# Altium schematic symbol library SCHLib.SchLib: 36 symbols
Pins are listed as number, name and electrical type; pins without a type are passive.

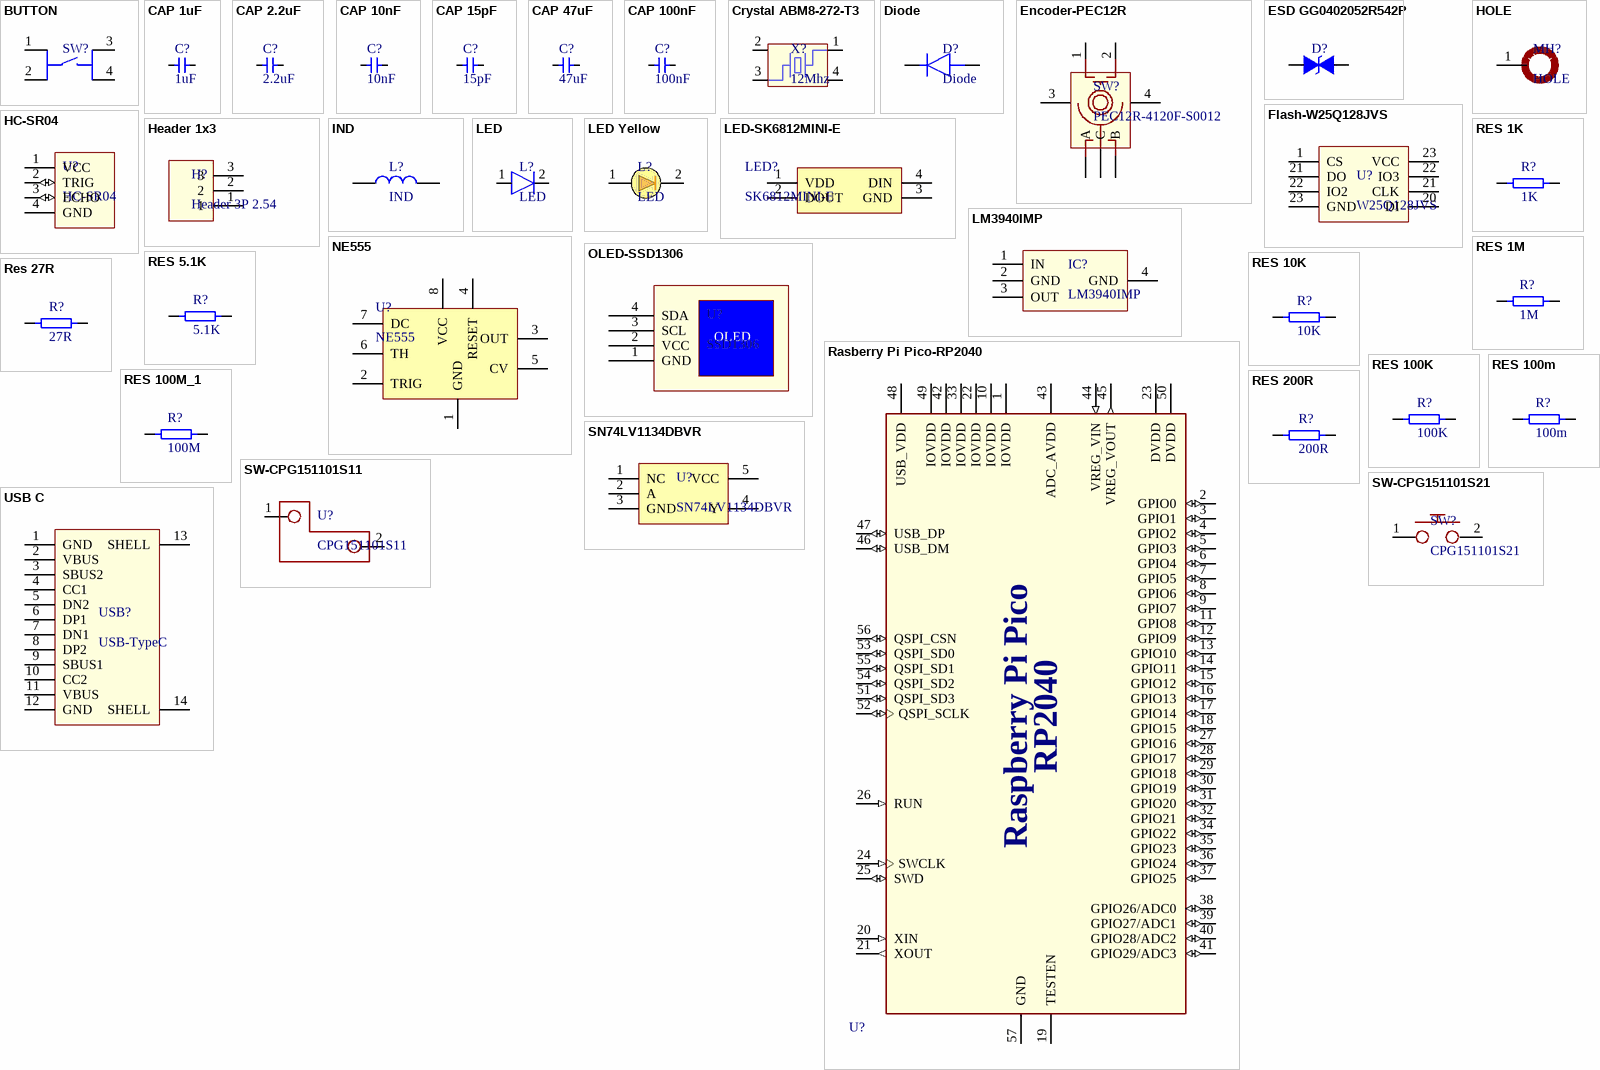
[diagram p0: symbols BUTTON to USB C]

## BUTTON
designator SW?, comment Button  (value not drawn)
SMD
footprint Button
pins: 1, 2, 3, 4

## CAP 1uF
designator C?, comment 1uF
SMD 0402
footprint C 0.79 0.54
pins: 1, 2

## CAP 2.2uF
designator C?, comment 2.2uF
SMD
footprint C 0.79 0.54
pins: 1, 2

## CAP 10nF
designator C?, comment 10nF
SMD
footprint SMD 0.79 0.54
pins: 1, 2

## CAP 15pF
designator C?, comment 15pF
SMD
footprint C 0.79 0.54
pins: 1, 2

## CAP 47uF
designator C?, comment 47uF
SMD
footprint C 1.485 1.728
pins: 1, 2

## CAP 100nF
designator C?, comment 100nF
SMD
footprint C 0.79 0.54
pins: 1, 2

## Crystal ABM8-272-T3
designator X?, comment 12Mhz
SMD
footprint ABM8
pins: 1, 2 GND, 3, 4 GND

## Diode
designator D?
SMD
footprint Diode
pins: 1, 2

## Encoder-PEC12R
designator SW?, comment PEC12R-4120F-S0012
footprint SW-encoder
pins: 1, 2, 3, 4, 5 A, 6 C, 7 B

## ESD GG0402052R542P
designator D?  (value not drawn)
SMD
footprint D 0.6
pins: 1, 2

## Flash-W25Q128JVS
designator U?, comment W25Q128JVS
16 MB-SPI/QSPI/DSPI
footprint W25Q128JVS
pins: 1 CS, 20 DI, 21 DO, 21 CLK, 22 IO2, 22 IO3, 23 GND, 23 VCC

## HC-SR04
designator U?
THT
footprint HC-SR04
pins: 1 VCC (power), 2 TRIG (io), 3 ECHO (io), 4 GND (power)

## Header 1x3
designator H?, comment Header 3P 2.54
THT
footprint Header 1x3
pins: 1, 2, 3

## HOLE
designator MH?
footprint Hole
pins: 1

## IND
designator L?
footprint L 0.8
pins: 1, 2

## LED
designator L?
footprint LED
pins: 1, 2

## LED Yellow
designator L?, comment LED
SMD
footprint LED
pins: 1, 2

## LED-SK6812MINI-E
designator LED?, comment SK6812MINI-E
RGB 3.7V~5.5V 0.6mA
footprint LED-SK6812MINI-E
pins: 1 VDD, 2 DOUT, 3 GND, 4 DIN

## LM3940IMP
designator IC?
5v->3v3
footprint LM39
pins: 1 IN, 2 GND, 3 OUT, 4 GND

## NE555
designator U?
footprint NE555_DIP8
pins: 1 GND, 2 TRIG, 3 OUT, 4 RESET, 5 CV, 6 TH, 7 DC, 8 VCC

## OLED-SSD1306
designator U?, comment SSD1306
THT
footprint OLED-SSD1306_Footprint
pins: 1 GND, 2 VCC, 3 SCL, 4 SDA
text: OLED

## Rasberry Pi Pico-RP2040
designator U?, comment RP2040  (value not drawn)
RP2040 chip for Raspberry Pi Pico - ARM® Cortex®-M0+ MCU 32-Bit
footprint RP2040
pins: 1 IOVDD (power), 2 GPIO0 (io), 3 GPIO1 (io), 4 GPIO2 (io), 5 GPIO3 (io), 6 GPIO4 (io), 7 GPIO5 (io), 8 GPIO6 (io), 9 GPIO7 (io), 10 IOVDD (power), 11 GPIO8 (io), 12 GPIO9 (io), 13 GPIO10 (io), 14 GPIO11 (io), 15 GPIO12 (io), 16 GPIO13 (io), 17 GPIO14 (io), 18 GPIO15 (io), 19 TESTEN, 20 XIN (in), 21 XOUT (out), 22 IOVDD (power), 23 DVDD (power), 24 SWCLK (in), 25 SWD (io), 26 RUN (in), 27 GPIO16 (io), 28 GPIO17 (io), 29 GPIO18 (io), 30 GPIO19 (io), 31 GPIO20 (io), 32 GPIO21 (io), 33 IOVDD (power), 34 GPIO22 (io), 35 GPIO23 (io), 36 GPIO24 (io), 37 GPIO25 (io), 38 GPIO26/ADC0 (io), 39 GPIO27/ADC1 (io), 40 GPIO28/ADC2 (io), 41 GPIO29/ADC3 (io), 42 IOVDD (power), 43 ADC_AVDD (power), 44 VREG_VIN (in), 45 VREG_VOUT (out), 46 USB_DM (io), 47 USB_DP (io), 48 USB_VDD (power), 49 IOVDD (power), 50 DVDD (power), 51 QSPI_SD3 (io), 52 QSPI_SCLK (io), 53 QSPI_SD0 (io), 54 QSPI_SD2 (io), 55 QSPI_SD1 (io), 56 QSPI_CSN (io), 57 GND (power)
text: Raspberry Pi Pico

## RES 1K
designator R?, comment 1K
SMD
footprint SMD 0.566 0.54
pins: 1, 2

## RES 1M
designator R?, comment 1M
SMD
footprint SMD 0.566 0.54
pins: 1, 2

## RES 5.1K
designator R?, comment 5.1K
SMD
footprint SMD 0.566 0.54
pins: 1, 2

## RES 10K
designator R?, comment 10K
SMD
footprint SMD 0.566 0.54
pins: 1, 2

## Res 27R
designator R?, comment 27R
SMD
footprint SMD 0.566 0.54
pins: 1, 2

## RES 100K
designator R?, comment 100K
SMD
footprint SMD 0.566 0.54
pins: 1, 2

## RES 100m
designator R?, comment 100m
footprint RES 1.208 1.701
pins: 1, 2

## RES 100M_1
designator R?, comment 100M
SMD
footprint SMD 0.566 0.54
pins: 1, 2

## RES 200R
designator R?, comment 200R
SMD
footprint SMD 0.566 0.54
pins: 1, 2

## SN74LV1134DBVR
designator U?
footprint SN74LV1134DBVR
pins: 1 NC, 2 A, 3 GND, 4 Y, 5 VCC

## SW-CPG151101S11
designator U?, comment CPG151101S11
footprint CPG151101S11
pins: 1, 2

## SW-CPG151101S21
designator SW?, comment CPG151101S21
footprint CPG151101S21
pins: 1, 2

## USB C
designator USB?, comment USB-TypeC
footprint USB-C
pins: 1 GND, 2 VBUS, 3 SBUS2, 4 CC1, 5 DN2, 6 DP1, 7 DN1, 8 DP2, 9 SBUS1, 10 CC2, 11 VBUS, 12 GND, 13 SHELL, 14 SHELL